# Altium integrated library F1D1-060603W-100M.IntLib: 1 symbol
Pins are listed as number, name and electrical type; pins without a type are passive.

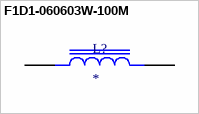
[diagram p0: symbol F1D1-060603W-100M]

## F1D1-060603W-100M
designator L?
High Current Shielded Power Inductor | 10uH | 4.5A | 1LN | 7.3 x 6.8 x 3mm Footprint | 3mm Height Profile; MF: Bel Fuse; MP: F1D1-060603W-100M; SnapEDA_Link: https://www.snapeda.com/parts/F1D1-060603W-100M/Bel+Circuit+Protection/view-part/?ref=snap; Package: None; Value: *; Check_prices: https://www.snapeda.com/parts/F1D1-060603W-100M/Bel+Circuit+Protection/view-part/?ref=eda
footprint IND_F1D1-060603W-100M
pins: 1, 2